# EAGLE library part SI4735 (library Miszczo)
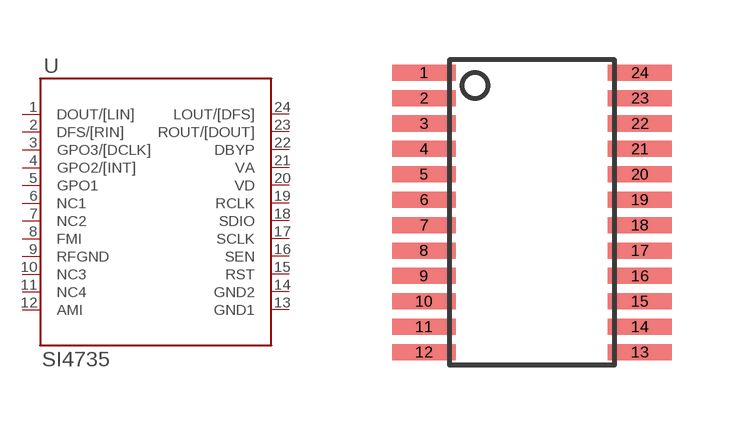
[diagram p5: symbol with the pads of SI4735; footprint SI4735]

Designator prefix U

## SI4735  [SI4735]
1  DOUT/[LIN]
2  DFS/[RIN]
3  GPO3/[DCLK]
4  GPO2/[INT]
5  GPO1
6  NC1
7  NC2
8  FMI
9  RFGND
10  NC3
11  NC4
12  AMI
13  GND1
14  GND2
15  RST
16  SEN
17  SCLK
18  SDIO
19  RCLK
20  VD
21  VA
22  DBYP
23  ROUT/[DOUT]
24  LOUT/[DFS]

## Footprint SI4735 (pad centres in mm)
smd 1.6 x 0.4: 1 -2.54,3.175; 2 -2.54,2.54; 3 -2.54,1.905; 4 -2.54,1.27; 5 -2.54,0.635; 6 -2.54,0; 7 -2.54,-0.635; 8 -2.54,-1.27; 9 -2.54,-1.905; 10 -2.54,-2.54; 11 -2.54,-3.175; 12 -2.54,-3.81; 13 2.857,-3.81; 14 2.857,-3.175; 15 2.857,-2.54; 16 2.857,-1.905; 17 2.857,-1.27; 18 2.857,-0.635; 19 2.857,0; 20 2.857,0.635; 21 2.857,1.27; 22 2.857,1.905; 23 2.857,2.54; 24 2.857,3.175